# EAGLE library part 4009N (library EW_IC_74_Logic)
Hex Inverter. Category: Gates Manufacturer: Generic
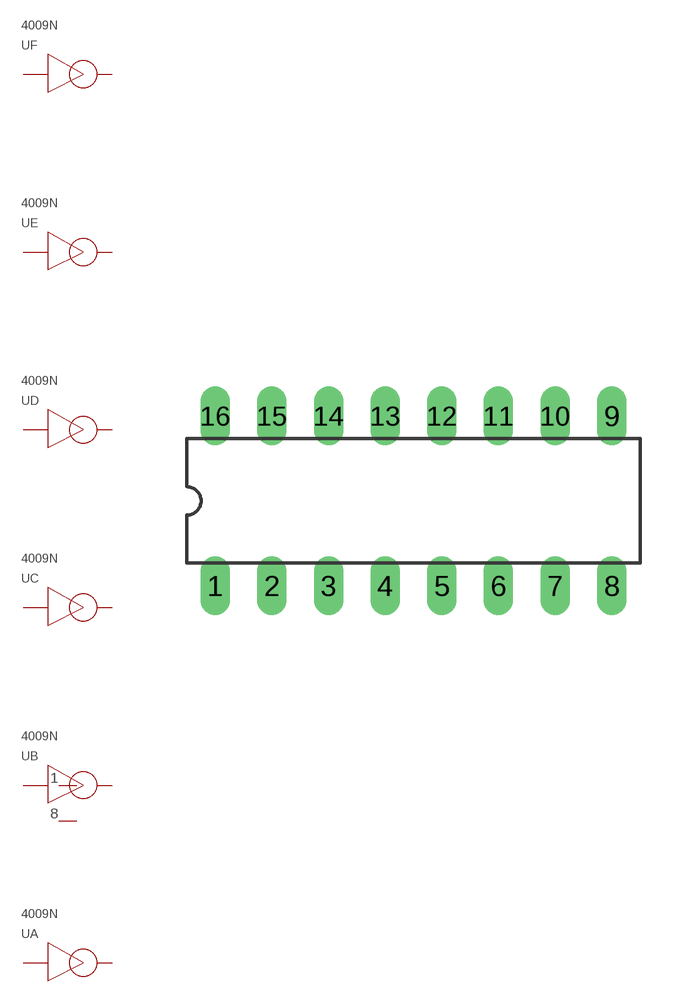
[diagram p339: symbol with the pads of DIL16; footprint DIL16]

Designator prefix U; gates A=INVERTER B=INVERTER C=INVERTER D=INVERTER E=INVERTER F=INVERTER COM=4009N_COMMON

## 4009N  [DIL16]
1  COM:VSS  pwr
2  A:OUT  pwr
3  A:IN  pwr
4  B:OUT  pwr
5  B:IN  pwr
6  C:OUT  pwr
7  C:IN  pwr
8  COM:GND  pwr
9  D:IN  pwr
10  D:OUT  pwr
11  E:IN  pwr
12  E:OUT  pwr
14  F:IN  pwr
15  F:OUT  pwr

## Footprint DIL16 (pad centres in mm)
SOCKET Dual In Line
drill 0.813 long: 1 -8.89,-3.81; 2 -6.35,-3.81; 3 -3.81,-3.81; 4 -1.27,-3.81; 5 1.27,-3.81; 6 3.81,-3.81; 7 6.35,-3.81; 8 8.89,-3.81; 9 8.89,3.81; 10 6.35,3.81; 11 3.81,3.81; 12 1.27,3.81; 13 -1.27,3.81; 14 -3.81,3.81; 15 -6.35,3.81; 16 -8.89,3.81